# Altium integrated library CAP_SMD.IntLib: 1 symbol
Pins are listed as number, name and electrical type; pins without a type are passive.

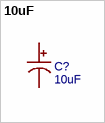
[diagram p0: symbol 10uF]

## 10uF
designator C?
BOM_Manufacturer: CapXon; BOM_Manufacturer Part: ZV100M050E055R; nameAlias: Capacitance; BOM_Supplier: LCSC; BOM_Supplier Part: C65228; BOM_JLCPCB Part Class: Extended Part; spicePre: C; spiceSymbolName: ZV100M050E055R
footprint CAP-SMD_BD6.3-L6.6-W6.6-RD
pins: 1, 2